# Altium schematic symbol library 集成电路.SchLib: 8 symbols
Pins are listed as number, name and electrical type; pins without a type are passive.

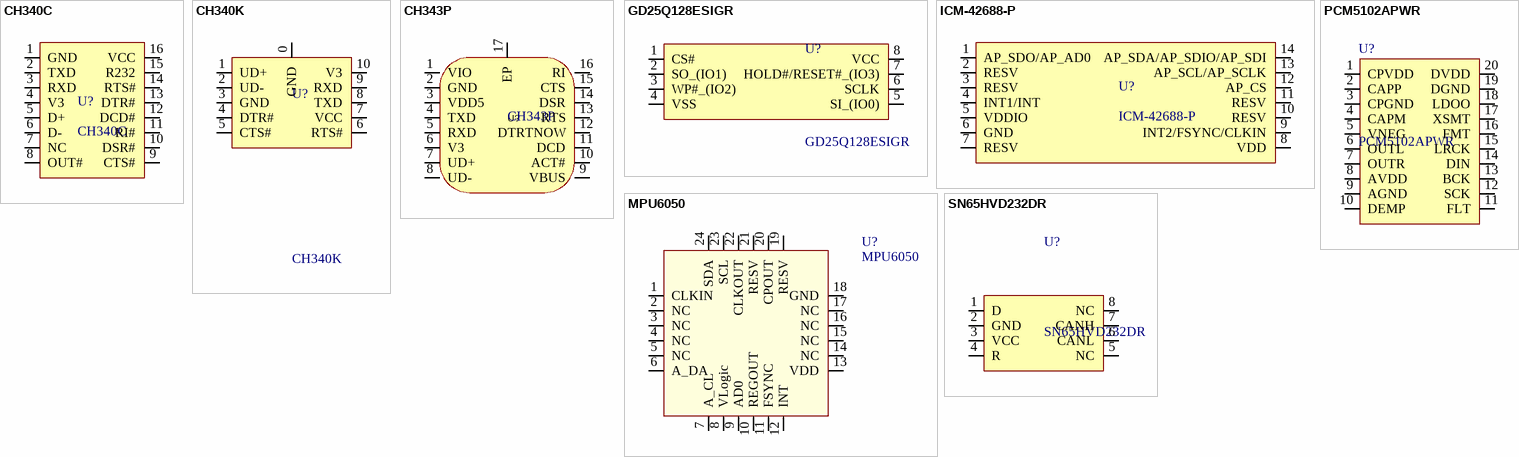
[diagram p0: symbols CH340C to SN65HVD232DR]

## CH340C
designator U?
MF: WCH; Price: None; Availability: Not in stock; MP: CH340C; Package: None; SnapEDA_Link: https://www.snapeda.com/parts/CH340C/WCH/view-part/?ref=snap; Check_prices: https://www.snapeda.com/parts/CH340C/WCH/view-part/?ref=eda; Value: *
footprint SOP-16
pins: 1 GND, 2 TXD, 3 RXD, 4 V3, 5 D+, 6 D-, 7 NC, 8 OUT#, 9 CTS#, 10 DSR#, 11 RI#, 12 DCD#, 13 DTR#, 14 RTS#, 15 R232, 16 VCC

## CH340K
designator U?
footprint ESSOP10
pins: 0 GND, 1 UD+, 2 UD-, 3 GND, 4 DTR#, 5 CTS#, 6 RTS#, 7 VCC, 8 TXD, 9 RXD, 10 V3

## CH343P
designator U?
Designer: U?; Symbol: CH343P; Device: CH343P
footprint QFN-16
pins: 1 VIO, 2 GND, 3 VDD5, 4 TXD, 5 RXD, 6 V3, 7 UD+, 8 UD-, 9 VBUS, 10 ACT#, 11 DCD, 12 DTRTNOW, 13 RTS, 14 DSR, 15 CTS, 16 RI, 17 EP

## GD25Q128ESIGR
designator U?
Manufacturer_Name: GigaDevice Semiconductor (HK) Limited; Geometry.Height: 2.16mm; Manufacturer_Part_Number: GD25Q128ESIGR; Mouser Part Number: 363-GD25Q128ESIGR; Mouser Price/Stock: https://www.mouser.co.uk/ProductDetail/GigaDevice/GD25Q128ESIGR?qs=GedFDFLaBXEn3Si%252BVvAJYw%3D%3D; Arrow Part Number: *; Arrow Price/Stock: *; Datasheet Link: https://www.mouser.vn/ProductDetail/GigaDevice/GD25Q128ESIGR?qs=GedFDFLaBXEn3Si%252BVvAJYw%3D%3D
footprint SOP-8
pins: 1 CS#, 2 SO_(IO1), 3 WP#_(IO2), 4 VSS, 5 SI_(IO0), 6 SCLK, 7 HOLD#/RESET#_(IO3), 8 VCC

## ICM-42688-P
designator U?
Package: None; MP: ICM-42688-P; Value: *; Availability: Unavailable; Price: None
footprint LGA-14
pins: 1 AP_SDO/AP_AD0, 2 RESV, 3 RESV, 4 INT1/INT, 5 VDDIO, 6 GND, 7 RESV, 8 VDD, 9 INT2/FSYNC/CLKIN, 10 RESV, 11 RESV, 12 AP_CS, 13 AP_SCL/AP_SCLK, 14 AP_SDA/AP_SDIO/AP_SDI

## MPU6050
designator U?
footprint QFN-24
pins: 1 CLKIN, 2 NC, 3 NC, 4 NC, 5 NC, 6 A_DA, 7 A_CL, 8 VLogic, 9 AD0, 10 REGOUT, 11 FSYNC, 12 INT, 13 VDD, 14 NC, 15 NC, 16 NC, 17 NC, 18 GND, 19 RESV, 20 CPOUT, 21 RESV, 22 CLKOUT, 23 SCL, 24 SDA

## PCM5102APWR
designator U?
Manufacturer_Name: Texas Instruments; Geometry.Height: 1.2mm; Manufacturer_Part_Number: PCM5102APWR; Mouser Part Number: 595-PCM5102APWR; Mouser Price/Stock: https://www.mouser.co.uk/ProductDetail/Texas-Instruments/PCM5102APWR?qs=E2%2FxqS9xjzrfECkwEYoiyg%3D%3D; Arrow Part Number: PCM5102APWR; Arrow Price/Stock: https://www.arrow.com/en/products/pcm5102apwr/texas-instruments?utm_currency=USD&region=nac; Datasheet Link: https://componentsearchengine.com/Datasheets/2/PCM5102APWR.pdf
footprint TSSOP-20
pins: 1 CPVDD, 2 CAPP, 3 CPGND, 4 CAPM, 5 VNEG, 6 OUTL, 7 OUTR, 8 AVDD, 9 AGND, 10 DEMP, 11 FLT, 12 SCK, 13 BCK, 14 DIN, 15 LRCK, 16 FMT, 17 XSMT, 18 LDOO, 19 DGND, 20 DVDD

## SN65HVD232DR
designator U?
Manufacturer: Texas Instruments; Protocol: CAN; Number of Drivers/Receivers: 1/1; Duplex: Half; Data Rate: 1Mbps; Voltage - Supply: 3 V ~ 3.6 V; Supplier 1: Digi-Key; Supplier Part Number 1: 296-26344-2-ND; RoHS: RoHS Compliant; Category: Integrated Circuits (ICs); Stock: 5000; Pricing 1: 2500=0.84375 (USD); Packaging: Tape & Reel (TR); Part Status: Active; Type: Transceiver; Operating Temperature: -40°C ~ 85°C; Mounting Type: Surface Mount; Package / Case: 8-SOIC (0.154", 3.90mm Width); Supplier Device Package: 8-SOIC; ComponentLink1URL: http://www.ti.com/lit/ds/symlink/sn65hvd230.pdf; ComponentLink1Description: http://www.ti.com/lit/ds/symlink/sn65hvd230.pdf; Supplier 2: Digi-Key; Supplier Part Number 2: 296-26344-1-ND; Pricing 2: 1=2.05, 10=1.842, 100=1.4809, 500=1.21668, 1000=1.00811 (USD)
footprint SOIC-8
pins: 1 D, 2 GND, 3 VCC, 4 R, 5 NC, 6 CANL, 7 CANH, 8 NC